# Altium schematic symbol library MAX_ICs.SchLib: 2 symbols
Pins are listed as number, name and electrical type; pins without a type are passive.

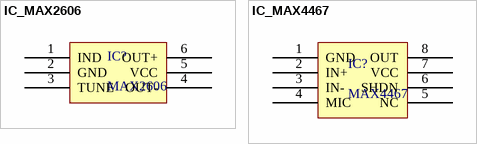
[diagram p0: symbols IC_MAX2606 to IC_MAX4467]

## IC_MAX2606
designator IC?, comment MAX2606
ComponentLink1Description: Datasheet; ComponentLink1URL: https://datasheets.maximintegrated.com/en/ds/MAX2605-MAX2609.pdf
footprint MAXIM SOT-23-6 (SOT23, 6-Leads, Body 2.90x2.80mm, Pitch 0.95mm, IPC Medium Density)
pins: 1 IND, 2 GND, 3 TUNE, 4 OUT-, 5 VCC, 6 OUT+

## IC_MAX4467
designator IC?, comment MAX4467
ComponentLink1Description: Datasheet; ComponentLink1URL: https://datasheets.maximintegrated.com/en/ds/MAX4465-MAX4469.pdf
footprint TI SOT-23-8 DDF (TSOT-23-8 Package, 0.65mm Pitch, 2.90x1.60mm Body)
pins: 1 GND, 2 IN+, 3 IN-, 4 MIC, 5 NC, 6 SHDN, 7 VCC, 8 OUT